# Altium schematic symbol library mu100-dit.SchLib: 11 symbols
Pins are listed as number, name and electrical type; pins without a type are passive.

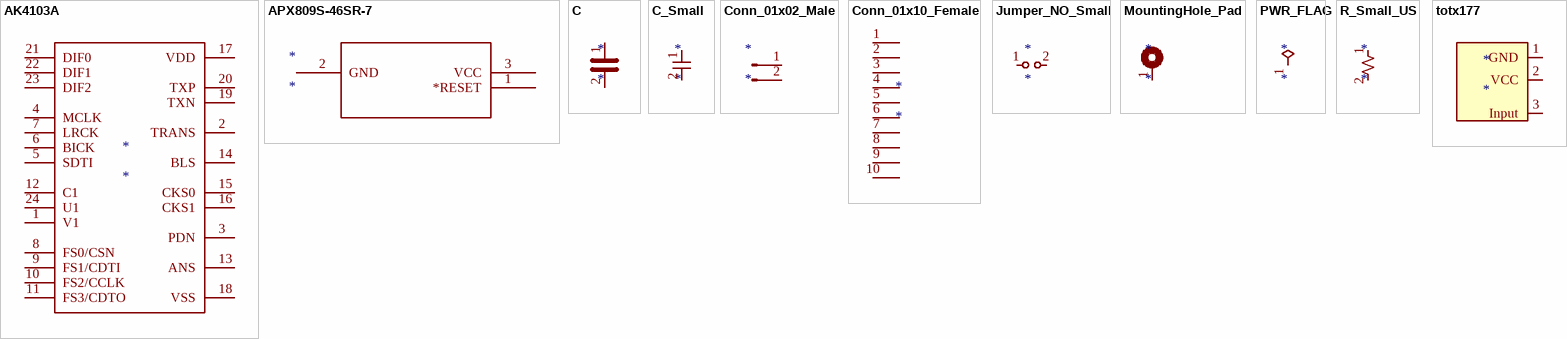
[diagram p0: symbols AK4103A to totx177]

## AK4103A
designator *
pins: 1 V1, 2 TRANS, 3 PDN, 4 MCLK, 5 SDTI, 6 BICK, 7 LRCK, 8 FS0/CSN, 9 FS1/CDTI, 10 FS2/CCLK, 11 FS3/CDTO, 12 C1, 13 ANS, 14 BLS, 15 CKS0, 16 CKS1, 17 VDD, 18 VSS, 19 TXN, 20 TXP, 21 DIF0, 22 DIF1, 23 DIF2, 24 U1

## APX809S-46SR-7
designator *
pins: 1 *RESET, 2 GND, 3 VCC

## C
designator *
pins: 1, 2

## C_Small
designator *
pins: 1, 2

## Conn_01x02_Male
designator *
pins: 1 Pin_1, 2 Pin_2

## Conn_01x10_Female
designator *
pins: 1 Pin_1, 2 Pin_2, 3 Pin_3, 4 Pin_4, 5 Pin_5, 6 Pin_6, 7 Pin_7, 8 Pin_8, 9 Pin_9, 10 Pin_10

## Jumper_NO_Small
designator *
pins: 1, 2

## MountingHole_Pad
designator *
pins: 1

## PWR_FLAG
designator *  (graphical)
pins: 1 pwr

## R_Small_US
designator *
pins: 1, 2

## totx177
designator *
pins: 1 GND, 2 VCC, 3 Input